# Altium schematic symbol library LDO.SchLib: 12 symbols
Pins are listed as number, name and electrical type; pins without a type are passive.

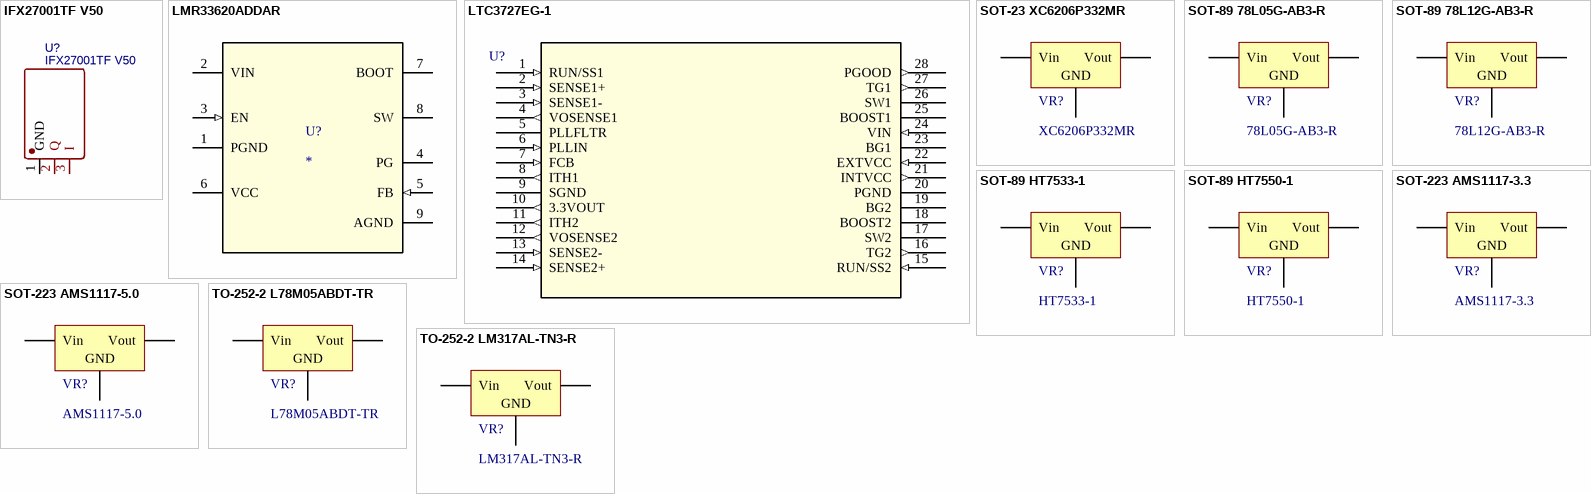
[diagram p0: symbols IFX27001TF V50 to TO-252-2 LM317AL-TN3-R]

## IFX27001TF V50
designator U?
BOM_Manufacturer: Infineon Technologies; BOM_Manufacturer Part: IFX27001TF V50
footprint TO-252-2_L6.6-W6.1-P4.57-LS9.9-BR-CW
pins: 1 GND, 2 Q, 3 I

## LMR33620ADDAR
designator U?
Imported; Manufacturer: Texas Instruments; PartNumber: LMR33620ADDAR; RefDes: RefDes; TYPE: TYPE; Value: Value; Manufacturer_Part_Number: LMR33620ADDAR; Manufacturer_Name: Texas Instruments
footprint DDA0008J
pins: 1 PGND (power), 2 VIN (power), 3 EN (in), 4 PG (oc), 5 FB (in), 6 VCC (power), 7 BOOT (power), 8 SW (power), 9 AGND

## LTC3727EG-1
designator U?  (value not drawn)
Imported; Manufacturer_Part_Number: ltc3727eg-1; Vendor: LinearTech; Value: Value; Type: Type; RefDes: RefDes
footprint SSOP-28_G
pins: 1 RUN/SS1 (in), 2 SENSE1+ (in), 3 SENSE1- (in), 4 VOSENSE1 (out), 5 PLLFLTR, 6 PLLIN (in), 7 FCB (in), 8 ITH1 (out), 9 SGND (power), 10 3.3VOUT (out), 11 ITH2 (out), 12 VOSENSE2 (out), 13 SENSE2- (in), 14 SENSE2+ (in), 15 RUN/SS2 (in), 16 TG2 (out), 17 SW2, 18 BOOST2, 19 BG2, 20 PGND (power), 21 INTVCC (out), 22 EXTVCC (in), 23 BG1, 24 VIN (in), 25 BOOST1, 26 SW1, 27 TG1 (out), 28 PGOOD (out)

## SOT-23 XC6206P332MR
designator VR?, comment XC6206P332MR
低压差线性稳压(LDO); ComponentLink1Description: 供应商链接; ComponentLink1URL: http://www.szlcsc.com/product/details_5896.html; Package: SOT-23; Supplier: LC; SuppliersPartNumber: C5446
footprint SOT-23-3L (http://www.aosmd.com/res/packaging_information/SOT-23-3L.pdf)
pins: 1 GND, 2 Vout, 3 Vin

## SOT-89 78L05G-AB3-R
designator VR?, comment 78L05G-AB3-R
低压差线性稳压(LDO); ComponentLink1Description: 供应商链接; ComponentLink1URL: http://www.szlcsc.com/product/details_72235.html; Package: SOT-89; Supplier: LC; SuppliersPartNumber: C71136
footprint SOT-89(SOT-89-3)
pins: 1 Vout, 2 GND, 3 Vin

## SOT-89 78L12G-AB3-R
designator VR?, comment 78L12G-AB3-R
低压差线性稳压(LDO); ComponentLink1Description: 供应商链接; ComponentLink1URL: http://www.szlcsc.com/product/details_76626.html; Package: SOT-89; Supplier: LC; SuppliersPartNumber: C75501
footprint SOT-89(SOT-89-3)
pins: 1 Vout, 2 GND, 3 Vin

## SOT-89 HT7533-1
designator VR?, comment HT7533-1
低压差线性稳压(LDO); ComponentLink1Description: 供应商链接; ComponentLink1URL: http://www.szlcsc.com/product/details_14949.html; Package: SOT-89; Supplier: LC; SuppliersPartNumber: C14289
footprint SOT-89(SOT-89-3)
pins: 1 GND, 2 Vin, 3 Vout

## SOT-89 HT7550-1
designator VR?, comment HT7550-1
低压差线性稳压(LDO); ComponentLink1Description: 供应商链接; ComponentLink1URL: http://www.szlcsc.com/product/details_16788.html; Package: SOT-89; Supplier: LC; SuppliersPartNumber: C16106
footprint SOT-89(SOT-89-3)
pins: 1 GND, 2 Vin, 3 Vout

## SOT-223 AMS1117-3.3
designator VR?, comment AMS1117-3.3
低压差线性稳压(LDO); ComponentLink1Description: 供应商链接; ComponentLink1URL: http://www.szlcsc.com/product/details_6652.html; Package: SOT-223; Supplier: LC; SuppliersPartNumber: C6186
footprint SOT-223
pins: 1 GND, 2 Vout, 3 Vin

## SOT-223 AMS1117-5.0
designator VR?, comment AMS1117-5.0
低压差线性稳压(LDO); ComponentLink1Description: 供应商链接; ComponentLink1URL: http://www.szlcsc.com/product/details_6653.html; Package: SOT-223; Supplier: LC; SuppliersPartNumber: C6187
footprint SOT-223
pins: 1 GND, 2 Vout, 3 Vin

## TO-252-2 L78M05ABDT-TR
designator VR?, comment L78M05ABDT-TR
低压差线性稳压(LDO); ComponentLink1Description: 供应商链接; ComponentLink1URL: http://www.szlcsc.com/product/details_59107.html; Package: TO-252-2; Supplier: LC; SuppliersPartNumber: C58069
footprint TO-252-2-180 (180度编带包装)
pins: 1 Vin, 2 GND, 3 Vout

## TO-252-2 LM317AL-TN3-R
designator VR?, comment LM317AL-TN3-R
低压差线性稳压(LDO); ComponentLink1Description: 供应商链接; ComponentLink1URL: http://www.szlcsc.com/product/details_76635.html; Package: TO-252-2; Supplier: LC; SuppliersPartNumber: C75510
footprint TO-252-2-180 (180度编带包装)
pins: 1 GND, 2 Vout, 3 Vin